# Altium footprint library LM2596T-5.0.PcbLib: 1 footprints
Each footprint in its own frame and in the unit in brackets; x right, y up, seen from the top. Pads: shape width x height; smd on the part's side, far side on the other; paste and mask are expansions set on the pad; w line width, h text height; cw(c..) or ccw(c..) is an arc to the next point about the centre after c.
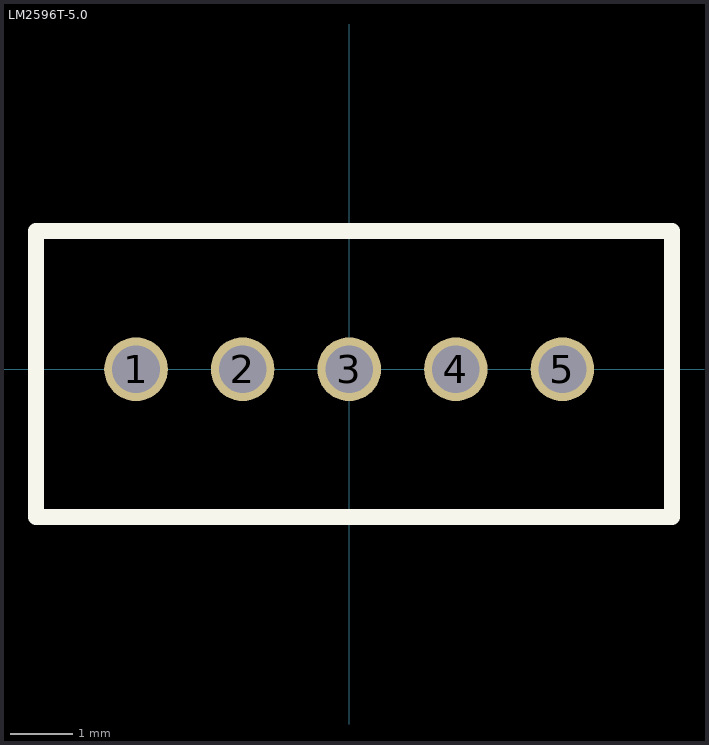
[diagram p0: the footprint, top view; thin cyan lines are the x and y axes]

## LM2596T-5.0 [mil] "5V"
pads (5):
  round 40 hole 30: 1(-134,0) 2(-67,0) 3(0,0) 4(67,0) 5(134,0)
Top Overlay:
  lines w10: -197,-93 -197,87 203,87 203,-93 -197,-93